# EAGLE library part F25G (library _mtvl.connectors)
D-SUB Connector
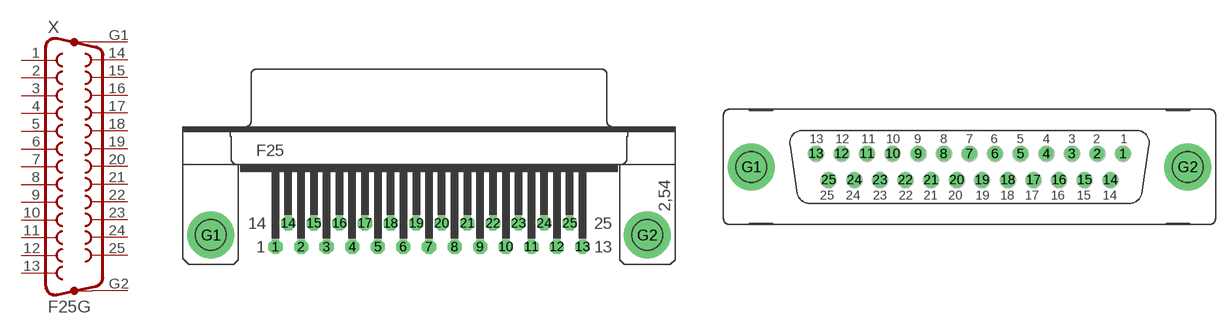
[diagram p30: symbol with the pads of F25HP; footprints F25HP, F25VP]

Designator prefix X

## F25GH  [F25HP]
1  1  pas
2  2  pas
3  3  pas
4  4  pas
5  5  pas
6  6  pas
7  7  pas
8  8  pas
9  9  pas
10  10  pas
11  11  pas
12  12  pas
13  13  pas
14  14  pas
15  15  pas
16  16  pas
17  17  pas
18  18  pas
19  19  pas
20  20  pas
21  21  pas
22  22  pas
23  23  pas
24  24  pas
25  25  pas
G1  G1  pas
G2  G2  pas

## F25GV  [F25VP]
Pads as for F25HP

## F25GA  [DRB-25FA]
Pads as for F25HP

## Footprint F25HP (pad centres in mm)
SUB-D
drill 1.016 octagon: 1 -16.561,-1.27; 2 -13.792,-1.27; 3 -11.049,-1.27; 4 -8.28,-1.27; 5 -5.512,-1.27; 6 -2.769,-1.27; 7 0,-1.27; 8 2.769,-1.27; 9 5.512,-1.27; 10 8.28,-1.27; 11 11.049,-1.27; 12 13.792,-1.27; 13 16.561,-1.27; 14 -15.189,1.27; 15 -12.421,1.27; 16 -9.652,1.27; 17 -6.909,1.27; 18 -4.14,1.27; 19 -1.372,1.27; 20 1.372,1.27; 21 4.14,1.27; 22 6.909,1.27; 23 9.652,1.27; 24 12.421,1.27; 25 15.189,1.27
drill 3.302 pad 5.08: G1 -23.52,0; G2 23.52,0

## Footprint F25VP (pad centres in mm)
SUB-D
drill 1.016 octagon: 1 16.561,1.422; 2 13.792,1.422; 3 11.049,1.422; 4 8.28,1.422; 5 5.512,1.422; 6 2.769,1.422; 7 0,1.422; 8 -2.769,1.422; 9 -5.512,1.422; 10 -8.28,1.422; 11 -11.049,1.422; 12 -13.792,1.422; 13 -16.561,1.422; 14 15.189,-1.422; 15 12.421,-1.422; 16 9.652,-1.422; 17 6.909,-1.422; 18 4.14,-1.422; 19 1.372,-1.422; 20 -1.372,-1.422; 21 -4.14,-1.422; 22 -6.909,-1.422; 23 -9.652,-1.422; 24 -12.421,-1.422; 25 -15.189,-1.422
drill 3.302 pad 5.08: G1 -23.52,0; G2 23.52,0

## Footprint DRB-25FA (pad centres in mm)
DRB-25FA D-SUB Connector (DS-1037 - 25 - F) by Connfly PartNumber: DS1037-25FNAKT74-0CC
drill 1 octagon: 1 -16.62,-1.42; 2 -13.85,-1.42; 3 -11.08,-1.42; 4 -8.31,-1.42; 5 -5.54,-1.42; 6 -2.77,-1.42; 7 0,-1.42; 8 2.77,-1.42; 9 5.54,-1.42; 10 8.31,-1.42; 11 11.08,-1.42; 12 13.85,-1.42; 13 16.62,-1.42; 14 -15.235,1.42; 15 -12.465,1.42; 16 -9.695,1.42; 17 -6.925,1.42; 18 -4.155,1.42; 19 -1.385,1.42; 20 1.385,1.42; 21 4.155,1.42; 22 6.925,1.42; 23 9.695,1.42; 24 12.465,1.42; 25 15.235,1.42
drill 3.302 pad 5.08: G1 -23.52,0; G2 23.52,0